# EAGLE library part 74LVC4245APW (library seniorDesign)
Level Translator input board
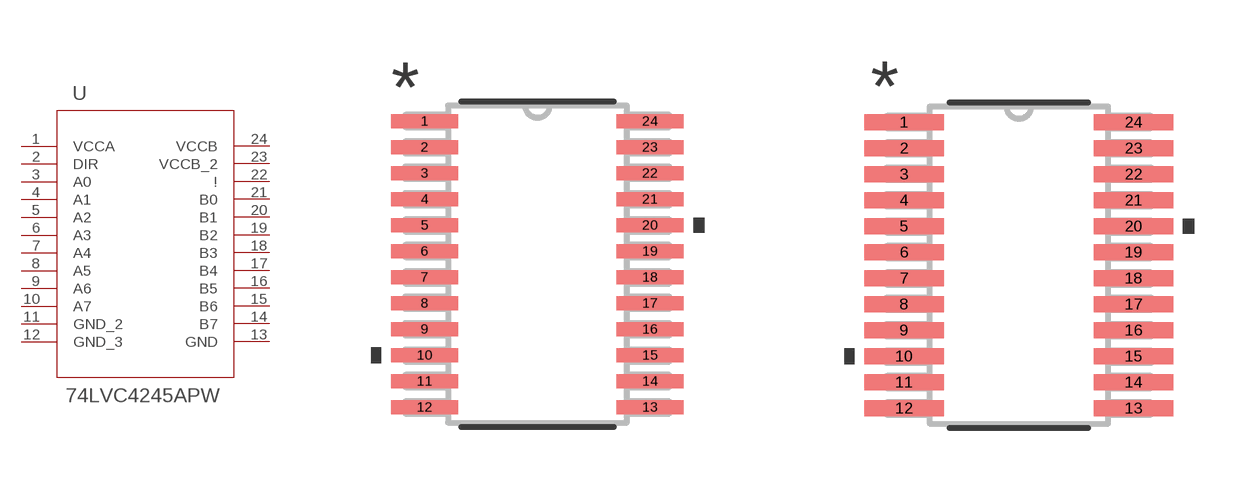
[diagram p11: symbol with the pads of SOT355-1; footprints SOT355-1, SOT355-1-M]

Designator prefix U

## 74LVC4245APW (MANUFACTURER_PART_NUMBER: 74LVC4245APW; VENDOR: NXP)  [SOT355-1]
1  VCCA  pwr
2  DIR  in
3  A0
4  A1
5  A2
6  A3
7  A4
8  A5
9  A6
10  A7
11  GND_2  pwr
12  GND_3  pwr
13  GND  pwr
14  B7
15  B6
16  B5
17  B4
18  B3
19  B2
20  B1
21  B0
22  !  in
23  VCCB_2  pwr
24  VCCB  pwr

## 74LVC4245APWSOT355-1-M (MANUFACTURER_PART_NUMBER: 74LVC4245APW; VENDOR: NXP)  [SOT355-1-M]
Pads as for SOT355-1

## 74LVC4245APWSOT355-1-L (MANUFACTURER_PART_NUMBER: 74LVC4245APW; VENDOR: NXP)  [SOT355-1-L]
Pads as for SOT355-1

## Footprint SOT355-1 (pad centres in mm)
smd 1.676 x 0.356: 1 -2.819,3.575; 2 -2.819,2.925; 3 -2.819,2.275; 4 -2.819,1.625; 5 -2.819,0.975; 6 -2.819,0.325; 7 -2.819,-0.325; 8 -2.819,-0.975; 9 -2.819,-1.625; 10 -2.819,-2.275; 11 -2.819,-2.925; 12 -2.819,-3.575; 13 2.819,-3.575; 14 2.819,-2.925; 15 2.819,-2.275; 16 2.819,-1.625; 17 2.819,-0.975; 18 2.819,-0.325; 19 2.819,0.325; 20 2.819,0.975; 21 2.819,1.625; 22 2.819,2.275; 23 2.819,2.925; 24 2.819,3.575

## Footprint SOT355-1-M (pad centres in mm)
smd 1.981 x 0.406: 1 -2.87,3.575; 2 -2.87,2.925; 3 -2.87,2.275; 4 -2.87,1.625; 5 -2.87,0.975; 6 -2.87,0.325; 7 -2.87,-0.325; 8 -2.87,-0.975; 9 -2.87,-1.625; 10 -2.87,-2.275; 11 -2.87,-2.925; 12 -2.87,-3.575; 13 2.87,-3.575; 14 2.87,-2.925; 15 2.87,-2.275; 16 2.87,-1.625; 17 2.87,-0.975; 18 2.87,-0.325; 19 2.87,0.325; 20 2.87,0.975; 21 2.87,1.625; 22 2.87,2.275; 23 2.87,2.925; 24 2.87,3.575

## Footprint SOT355-1-L (pad centres in mm)
smd 1.372 x 0.305: 1 -2.769,3.575; 2 -2.769,2.925; 3 -2.769,2.275; 4 -2.769,1.625; 5 -2.769,0.975; 6 -2.769,0.325; 7 -2.769,-0.325; 8 -2.769,-0.975; 9 -2.769,-1.625; 10 -2.769,-2.275; 11 -2.769,-2.925; 12 -2.769,-3.575; 13 2.769,-3.575; 14 2.769,-2.925; 15 2.769,-2.275; 16 2.769,-1.625; 17 2.769,-0.975; 18 2.769,-0.325; 19 2.769,0.325; 20 2.769,0.975; 21 2.769,1.625; 22 2.769,2.275; 23 2.769,2.925; 24 2.769,3.575